# Altium footprint library DIOM7958X256N.PcbLib: 1 footprints
Each footprint in its own frame and in the unit in brackets; x right, y up, seen from the top. Pads: shape width x height; smd on the part's side, far side on the other; paste and mask are expansions set on the pad; w line width, h text height; cw(c..) or ccw(c..) is an arc to the next point about the centre after c.
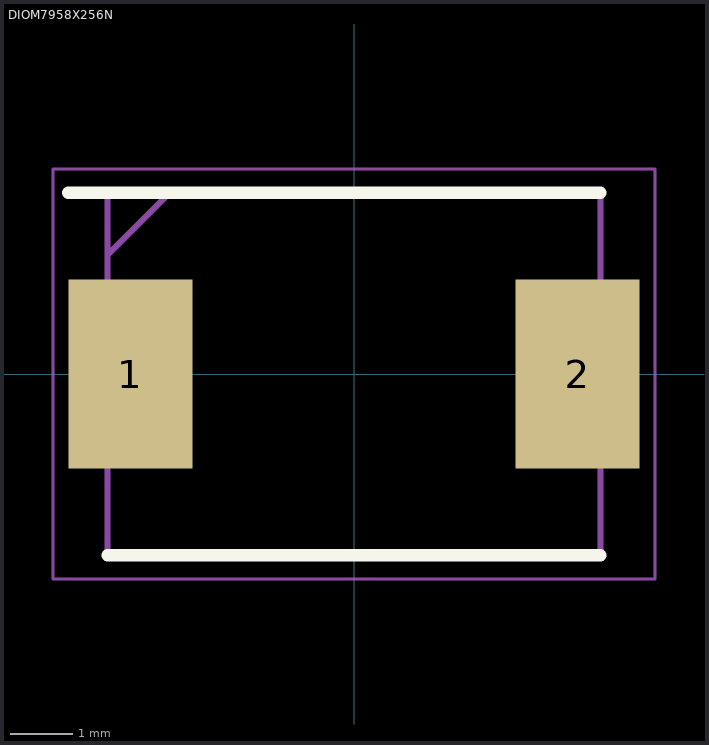
[diagram p0: the footprint, top view; thin cyan lines are the x and y axes]

## DIOM7958X256N [mm]
pads (2):
  rect 2x3.05 smd: 1(-3.6,0) 2(3.6,0)
Top Overlay:
  lines w0.2: -4.6,2.922 3.97,2.922 ; -3.97,-2.922 3.97,-2.922
Mechanical 15:
  lines w0.1: -3.97,1.922 -2.97,2.922 ; -3.97,-2.922 3.97,-2.922 3.97,2.922 -3.97,2.922 -3.97,-2.922
Mechanical 20:
  lines w0.05: -4.85,-3.3 4.85,-3.3 4.85,3.3 -4.85,3.3 -4.85,-3.3